# EAGLE library part SCT2320 (library dc-dc)
2A synchronous buck converter with up to 32V input voltage.
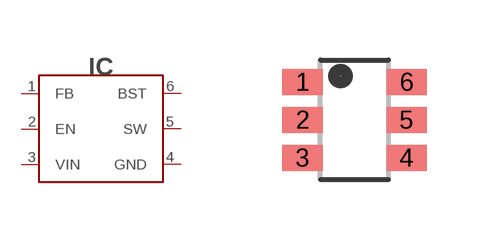
[diagram p10: symbol with the pads of SOT23-6; footprint SOT23-6]

Designator prefix IC

## SCT2320 (LCSC#: C509060; MANF: SCT; MANF#: SCT2320TVBR)  [SOT23-6]
1  FB
2  EN
3  VIN
4  GND
5  SW
6  BST

## Footprint SOT23-6 (pad centres in mm)
smd 1 x 0.65: 1 -1.3,0.95; 2 -1.3,0; 3 -1.3,-0.95; 4 1.3,-0.95; 5 1.3,0; 6 1.3,0.95